# Altium footprint library HVB_Library.PcbLib: 24 footprints (part 2 of 2)
Each footprint in its own frame and in the unit in brackets; x right, y up, seen from the top. Pads: shape width x height; smd on the part's side, far side on the other; paste and mask are expansions set on the pad; w line width, h text height; cw(c..) or ccw(c..) is an arc to the next point about the centre after c.
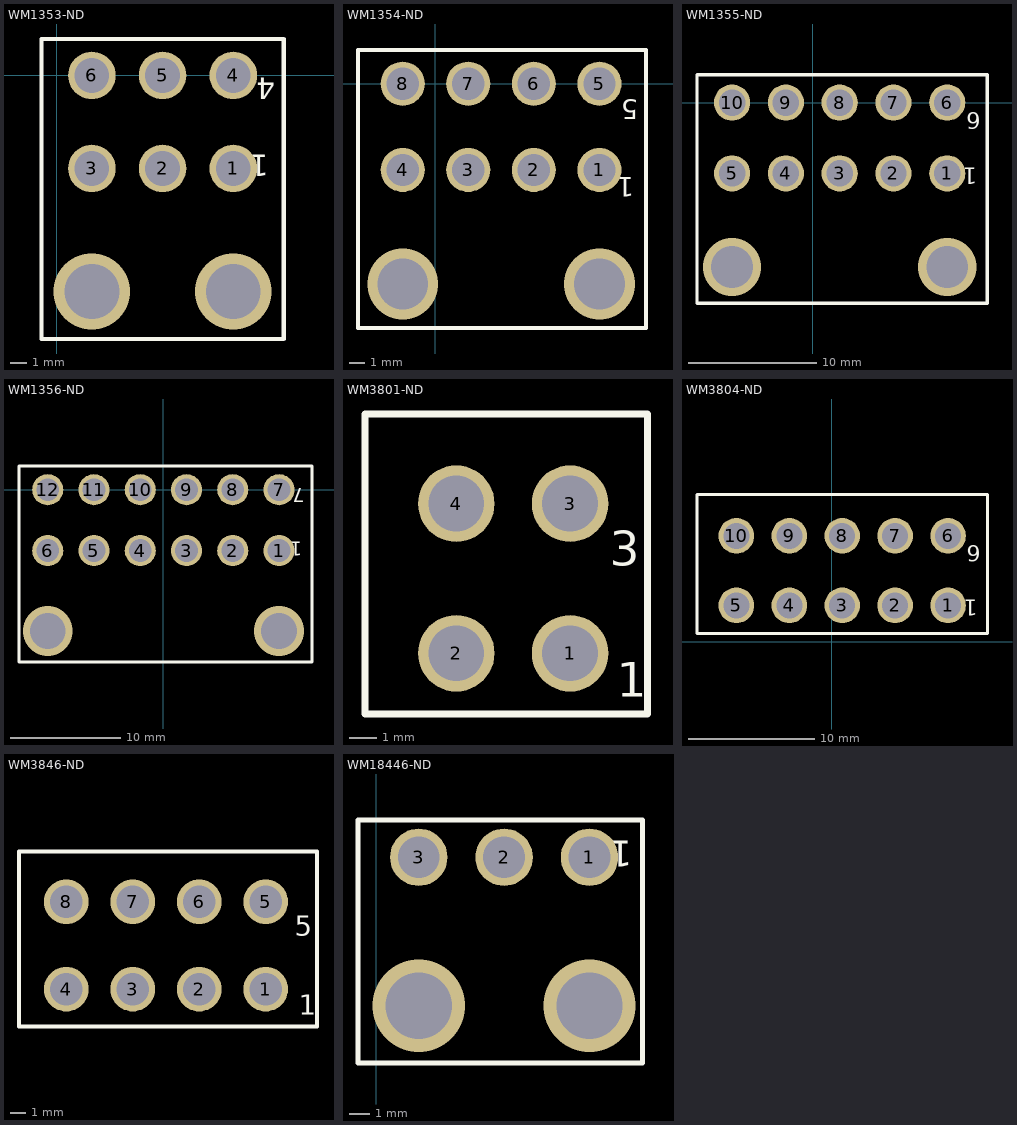
[diagram p1: the footprints below, top view; thin cyan lines are the x and y axes]

## WM1353-ND [mil]
pads (6):
  round 111 hole 81: 1(412.5,-217) 2(247.5,-217) 3(82.5,-217) 4(412.5,0) 5(247.5,0) 6(82.5,0)
via 82.5,-504 diameter 178 hole 128
via 412.5,-504 diameter 178 hole 128
Top Overlay:
  lines w10: -35,-615 530,-615 530,85 -35,85 -35,-615
  text "4" at 510,-5 h50
  text "1" at 495,-185 h50
3D body "039301060.stp": height 448.82, standoff -141.73, extent -14.06,-767.42 545,17.42

## WM1354-ND [mil]
pads (8):
  round 111 hole 81: 1(412.5,-217) 2(247.5,-217) 3(82.5,-217) 4(-82.5,-217) 5(412.5,0) 6(247.5,0) 7(82.5,0) 8(-82.5,0)
via 412.5,-504 diameter 178 hole 128
via -82.5,-504 diameter 178 hole 128
Top Overlay:
  lines w10: -195,-615 530,-615 530,85 -195,85 -195,-615
  text "1" at 500,-235 h50
  text "5" at 510,-40 h50
3D body "039301080.stp": height 448.82, standoff -141.73, extent -195,-762.42 529.41,22.42

## WM1355-ND [mil]
pads (10):
  round 111 hole 81: 1(412.5,-217) 2(247.5,-217) 3(82.5,-217) 4(-82.5,-217) 5(-247.5,-217) 6(412.5,0) 7(247.5,0) 8(82.5,0) 9(-82.5,0) 10(-247.5,0)
via -247.5,-504 diameter 178 hole 128
via 412.5,-504 diameter 178 hole 128
Top Overlay:
  lines w10: -355,-615 -355,85 535,85 535,-615 -355,-615
  text "6" at 515,-30 h50
  text "1" at 505,-200 h50
3D body "039301100.stp": height 448.82, standoff -141.73, extent -352,-764.99 537.76,19.85

## WM1356-ND [mil]
pads (12):
  round 111 hole 81: 1(412.5,-217) 2(247.5,-217) 3(82.5,-217) 4(-82.5,-217) 5(-247.5,-217) 6(-412.5,-217) 7(412.5,0) 8(247.5,0) 9(82.5,0) 10(-82.5,0) 11(-247.5,0) 12(-412.5,0)
via -412.5,-504 diameter 178 hole 128
via 412.5,-504 diameter 178 hole 128
Top Overlay:
  lines w10: -515,-615 -515,85 530,85 530,-615 -515,-615
  text "7" at 505,5 h50
  text "1" at 495,-185 h50
3D body "WM1356-ND.stp": height 448.82, standoff -141.73, extent -519.68,-765 535.44,19.84

## WM3801-ND [mil] "CONN HEADER VERT 4POS 4.2MM"
height 503.94
pads (4):
  round 111 hole 81: 1(562.5,358) 2(397.5,358) 3(562.5,575) 4(397.5,575)
Top Overlay:
  lines w10: 265,270 265,705 675,705 675,270 265,270
  text "3" at 620,485 h50
  text "1" at 630,295 h50
3D body "039281043.stp": height 503.94, standoff -137.8, extent 270,273.46 679.45,706.54

## WM3804-ND [mil] "CONN HEADER VERT 10POS 4.2MM"
height 503.94
pads (10):
  round 111 hole 81: 1(362.5,113) 2(197.5,113) 3(32.5,113) 4(-132.5,113) 5(-297.5,113) 6(362.5,330) 7(197.5,330) 8(32.5,330) 9(-132.5,330) 10(-297.5,330)
Top Overlay:
  lines w10: -420.25,25 485,25 485,459.11 -420.25,459.11 -420.25,25
  text "1" at 455,130 h50
  text "6" at 465,300 h50
3D body "039281103.stp": height 503.94, standoff -137.8, extent -420.25,26.03 485.26,459.11

## WM3846-ND [mil] "CONN HEADER VERT 8POS 4.2MM"
height 503.94
pads (8):
  round 111 hole 81: 1(2552.5,1048) 2(2387.5,1048) 3(2222.5,1048) 4(2057.5,1048) 5(2552.5,1265) 6(2387.5,1265) 7(2222.5,1265) 8(2057.5,1265)
Top Overlay:
  lines w10: 1940,955 2680,955 2680,1390 1940,1390 1940,955
  text "5" at 2625,1180 h50
  text "1" at 2635,985 h50
3D body "039293086.stp": height 503.94, standoff -137.8, extent 1939.93,956.03 2680.09,1389.1

## WM18446-ND [mil]
pads (3):
  round 111 hole 81: 1(412.5,-217) 2(247.5,-217) 3(82.5,-217)
via 412.5,-504 diameter 178 hole 128
via 82.5,-504 diameter 178 hole 128
Top Overlay:
  lines w10: -35,-615 -35,-145 515,-145 515,-615 -35,-615
  text "1" at 495,-185 h50
3D body "039303035.stp": height 283.46, standoff -137.8, extent -31.65,-748.15 511.65,-195